# Altium footprint library prj_l476.PcbLib: 35 footprints (part 2 of 3)
Each footprint in its own frame and in the unit in brackets; x right, y up, seen from the top. Pads: shape width x height; smd on the part's side, far side on the other; paste and mask are expansions set on the pad; w line width, h text height; cw(c..) or ccw(c..) is an arc to the next point about the centre after c.
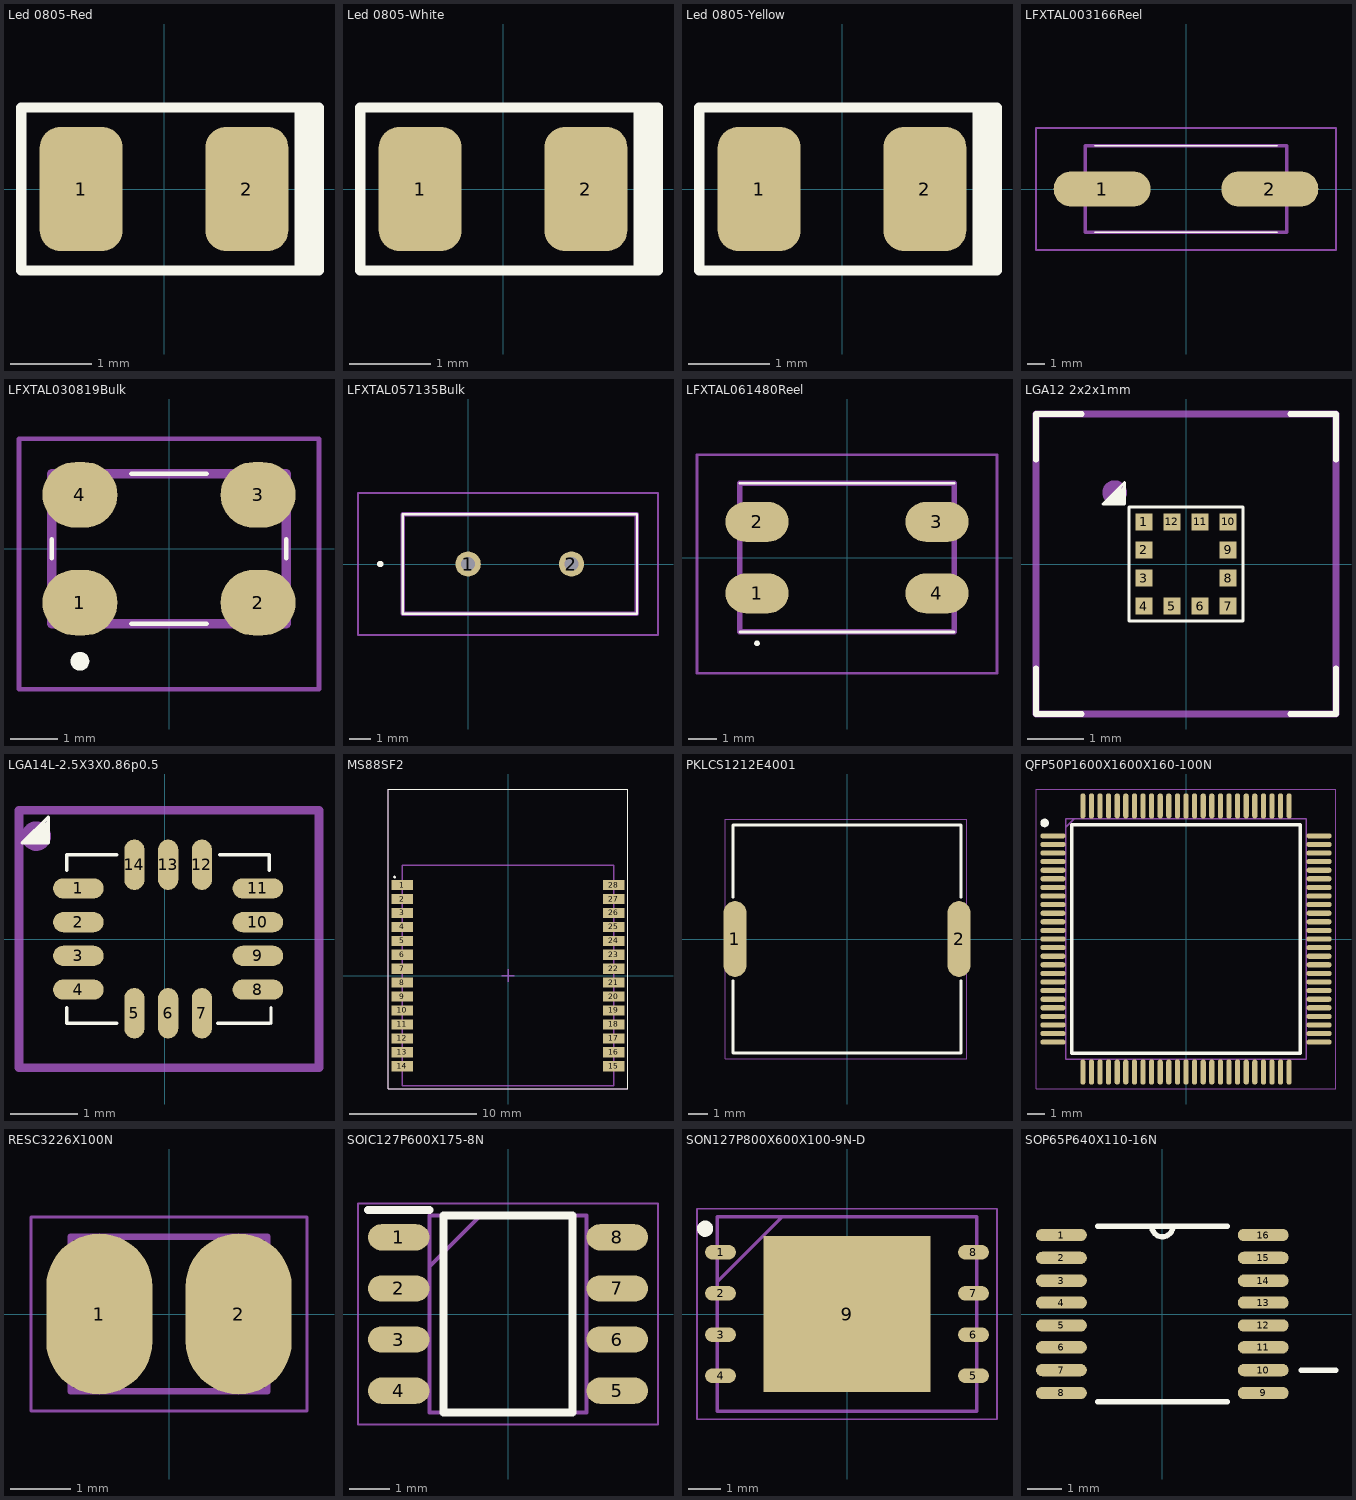
[diagram p1: the footprints below, top view; thin cyan lines are the x and y axes]

## Led 0805-Red [mil]
pads (2):
  rrect50% 40x60 smd: 1(-40,0) 2(40,0)
Top Overlay:
  rectangle: 62.99,-39.37 74.8,39.37
  lines w4.92: -68.9,-39.37 -68.9,39.37 74.8,39.37 74.8,-39.37 -68.9,-39.37
3D body "Led 0805-Red.STEP": height 43.31, standoff 0, extent -39.77,-24.61 39.76,24.6

## Led 0805-White [mil]
pads (2):
  rrect50% 40x60 smd: 1(-40,0) 2(40,0)
Top Overlay:
  rectangle: 62.99,-39.37 74.8,39.37
  lines w4.92: -68.9,-39.37 74.8,-39.37 74.8,39.37 -68.9,39.37 -68.9,-39.37
3D body "Led 0805-White.STEP": height 43.31, standoff 0, extent -39.77,-24.61 39.76,24.6

## Led 0805-Yellow [mil]
pads (2):
  rrect50% 40x60 smd: 1(-40,0) 2(40,0)
Top Overlay:
  rectangle: 62.99,-39.37 74.8,39.37
  lines w4.92: -68.9,-39.37 -68.9,39.37 74.8,39.37 74.8,-39.37 -68.9,-39.37
3D body "Led 0805-Yellow.STEP": height 43.31, standoff 0, extent -39.77,-24.61 39.76,24.6

## LFXTAL003166Reel [mm]
pads (2):
  oval 5.5x2 smd: 1(-4.75,0) 2(4.75,0)
Top Overlay:
  lines w0.1: -5.15,-2.45 5.15,-2.45 ; -5.15,2.45 5.15,2.45
Mechanical 13:
  lines w0.2: -5.7,-2.45 5.7,-2.45 5.7,2.45 -5.7,2.45 -5.7,-2.45
Mechanical 15:
  lines w0.1: -8.5,-3.45 8.5,-3.45 ; -8.5,-3.45 -8.5,3.45 ; -8.5,-3.45 8.5,-3.45 ; -8.5,-3.45 -8.5,3.45 ; -8.5,3.45 8.5,3.45 ; -8.5,3.45 8.5,3.45 ; 8.5,-3.45 8.5,3.45 ; 8.5,-3.45 8.5,3.45
3D body "LFXTAL003166Reel.stp": height 4.4, standoff 0, extent -7.3,-2.45 7.3,2.45

## LFXTAL030819Bulk [mm]
pads (4):
  oval 1.6x1.4 smd: 1(-1.9,-1.15) 2(1.9,-1.15) 3(1.9,1.15) 4(-1.9,1.15)
Top Overlay:
  lines w0.1: -2.5,-0.2 -2.5,0.2 ; -0.8,-1.6 0.8,-1.6 ; -0.8,1.6 0.8,1.6 ; 2.5,-0.2 2.5,0.2
  lines w0.2: -2,-2.4 cw(c-1.9,-2.4) -1.8,-2.4 cw(c-1.9,-2.4) -2,-2.4
Mechanical 13:
  lines w0.2: -2.5,-1.6 2.5,-1.6 2.5,1.6 -2.5,1.6 -2.5,-1.6
Mechanical 15:
  lines w0.1: -3.2,-3 3.2,-3 3.2,2.35 -3.2,2.35 -3.2,-3
3D body "LFXTAL059158Reel.stp": height 1.1, standoff 0, extent -2.56,-1.71 2.56,1.71

## LFXTAL057135Bulk [mm]
pads (2):
  round 1.192 hole 0.65: 1(0,0) 2(4.88,0)
Top Overlay:
  lines w0.1: -3.085,-2.35 -3.085,2.35 7.965,2.35 7.965,-2.35 -3.085,-2.35
  lines w0.2: -4.2,0 ccw(c-4.15,0) -4.1,0 ; -4.2,0 cw(c-4.15,0) -4.1,0 ; -4.2,0 ccw(c-4.15,0) -4.1,0
Mechanical 13:
  lines w0.2: -3.085,-2.35 -3.085,2.35 7.965,2.35 7.965,-2.35 -3.085,-2.35
Mechanical 15:
  lines w0.1: -5.2,-3.35 -5.2,3.35 8.965,3.35 8.965,-3.35 -5.2,-3.35
3D body "LFXTAL057135Bulk.stp": height 4.1, standoff -5, extent -3.085,-2.35 7.965,2.35

## LFXTAL061480Reel [mm]
pads (4):
  oval 2.2x1.4 smd: 1(-3.15,-1.25) 2(-3.15,1.25) 3(3.15,1.25) 4(3.15,-1.25)
Top Overlay:
  lines w0.1: -3.75,-2.6 3.75,-2.6 ; -3.75,2.6 3.75,2.6 ; -3.2,-3 ccw(c-3.15,-3) -3.1,-3 ccw(c-3.15,-3) -3.2,-3
Mechanical 13:
  lines w0.2: -3.75,-2.6 -3.75,2.6 3.75,2.6 3.75,-2.6 -3.75,-2.6
Mechanical 15:
  lines w0.1: -5.25,-4.05 -5.25,3.6 5.25,3.6 5.25,-4.05 -5.25,-4.05
3D body "LFXTAL026384Reel.stp": height 1.5, standoff 0, extent -4.11,-2.6 4.11,2.6

## LGA12 2x2x1mm [mm] "LGA12 2x2x1mm"
pads (12):
  rect 0.3x0.3 smd mask+0.05: 1(-0.75,0.75) 2(-0.75,0.25) 3(-0.75,-0.25) 4(-0.75,-0.75) 5(-0.25,-0.75) 6(0.25,-0.75) 7(0.75,-0.75) 8(0.75,-0.25) 9(0.75,0.25) 10(0.75,0.75) 11(0.25,0.75) 12(-0.25,0.75)
Top Overlay:
  lines w0.05: -1.118,1.168 -1.219,1.168 -1.143,1.143 -1.118,1.219 -1.321,1.118 -1.143,1.118 -1.118,1.067 -1.118,1.295 -1.295,1.092 -1.372,1.118 -1.092,1.372 -1.346,1.092 -1.422,1.092 -1.092,1.448 ; -1.092,1.448 -1.473,1.067 -1.092,1.067 -1.092,1.448 ; -1.016,-1.016 -1.016,1.016 1.016,1.016 1.016,-1.016 -1.016,-1.016
  lines w0.1: -2.667,-1.854 -2.667,-2.667 -1.854,-2.667 ; -2.667,1.854 -2.667,2.667 -1.854,2.667 ; 1.854,-2.667 2.667,-2.667 2.667,-1.854 ; 1.854,2.667 2.667,2.667 2.667,1.854
Mechanical 15:
  circle w0.254: c-1.27,1.27 r0.091
  lines w0.127: -2.667,-2.667 -2.667,2.667 2.667,2.667 2.667,-2.667 -2.667,-2.667
  text ".Designator" at -2.54,-0.381 h0.89
3D body: height 1.1, standoff 1, extent -0.725,0.253 -0.227,0.753
3D body: height 1, standoff 0, extent -1.016,-1.016 1.016,1.016

## LGA14L-2.5X3X0.86p0.5 [mm] "LGA14 2.5x3x0.86mm pitch0.5mm"
pads (14):
  oval 0.75x0.3 smd mask+0.05: 1(-1.279,0.75) 2(-1.279,0.25) 3(-1.279,-0.25) 4(-1.279,-0.75) 8(1.381,-0.75) 9(1.381,-0.25) 10(1.381,0.25) 11(1.381,0.75)
  oval 0.3x0.75 smd mask+0.05: 5(-0.449,-1.1) 6(0.051,-1.1) 7(0.551,-1.1) 12(0.551,1.1) 13(0.051,1.1) 14(-0.449,1.1)
Top Overlay:
  lines w0.05: -1.88,1.448 -1.93,1.448 ; -1.829,1.473 -1.778,1.499 -1.854,1.524 -1.753,1.524 ; -1.778,1.473 -1.753,1.422 -1.753,1.651 -1.93,1.448 ; -1.449,-1.016 -1.449,-1.25 -0.711,-1.25 ; -1.449,1.016 -1.449,1.25 -0.711,1.25 ; 0.787,-1.25 1.551,-1.25 ; 0.813,1.25 1.551,1.25 1.551,1.016 ; 1.575,-1.25 1.575,-1.016 ; -1.93,1.448 -2.007,1.473 -1.727,1.727 -1.981,1.448 -2.057,1.448 -1.727,1.803 ; -1.727,1.803 -1.727,1.422 -2.108,1.422 -1.727,1.803
  lines w0.1: -1.88,1.448 -1.829,1.448 -1.753,1.524 -1.753,1.651 -1.753,1.626 -1.854,1.524
Mechanical 15:
  circle w0.254: c-1.905,1.524 r0.091
  lines w0.127: -2.159,-1.905 2.286,-1.905 2.286,1.905 -2.159,1.905 -2.159,-1.905
  text ".Designator" at -1.905,0 h0.89
3D body: height 0.9, standoff 0.8, extent -1.214,0.517 -0.716,1.016
3D body: height 0.86, standoff 0, extent -1.473,-1.27 1.575,1.27

## MS88SF2 [mm] "Chip Array, Flat, 28-Leads, Pitch 1,10mm,  Body 17,40x17,40mm,  IPC Medium Density"
height 0.6
pads (28):
  rect 1.7x0.8 smd: 1(-8.35,7.15) 2(-8.35,6.05) 3(-8.35,4.95) 4(-8.35,3.85) 5(-8.35,2.75) 6(-8.35,1.65) 7(-8.35,0.55) 8(-8.35,-0.55) 9(-8.35,-1.65) 10(-8.35,-2.75) 11(-8.35,-3.85) 12(-8.35,-4.95) 13(-8.35,-6.05) 14(-8.35,-7.15) 15(8.35,-7.15) 16(8.35,-6.05) 17(8.35,-4.95) 18(8.35,-3.85) 19(8.35,-2.75) 20(8.35,-1.65) 21(8.35,-0.55) 22(8.35,0.55) 23(8.35,1.65) 24(8.35,2.75) 25(8.35,3.85) 26(8.35,4.95) 27(8.35,6.05) 28(8.35,7.15)
Top Overlay:
  circle w0.1: c-8.962,7.788 r0.05
  lines w0.05: -9.47,-8.95 9.47,-8.95 9.47,14.74 -9.47,14.74 -9.47,-8.95
Mechanical 13:
  lines w0.1: -8.35,-8.7 8.35,-8.7 8.35,8.7 -8.35,8.7 -8.35,-8.7
Mechanical 15:
  lines w0.05: -9.47,-8.95 9.47,-8.95 9.47,14.74 -9.47,14.74 -9.47,-8.95
  lines w0.1: -0.5,0 0.5,0 ; 0,-0.5 0,0.5
3D body "CAF-110P1739X1739-28N.step": height 0.6, standoff 0, extent -8.75,-8.7 8.75,8.7

## PKLCS1212E4001 [mm]
pads (2):
  oval 1.2x4 smd: 1(-5.9,0) 2(5.9,0)
Top Overlay:
  lines w0.15: -6,-2.2 -6,-6 6,-6 6,-2.2 ; -6,2.2 -6,6 6,6 6,2.2
Mechanical 15:
  lines w0.015: -6.4,-6.3 -6.4,6.3 6.3,6.3 6.3,-6.3 -6.4,-6.3

## QFP50P1600X1600X160-100N [mm]
pads (100):
  oval 1.475x0.3 smd: 1(-7.738,6) 2(-7.738,5.5) 3(-7.738,5) 4(-7.738,4.5) 5(-7.738,4) 6(-7.738,3.5) 7(-7.738,3) 8(-7.738,2.5) 9(-7.738,2) 10(-7.738,1.5) 11(-7.738,1) 12(-7.738,0.5) 13(-7.738,0) 14(-7.738,-0.5) 15(-7.738,-1) 16(-7.738,-1.5) 17(-7.738,-2) 18(-7.738,-2.5) 19(-7.738,-3) 20(-7.738,-3.5) 21(-7.738,-4) 22(-7.738,-4.5) 23(-7.738,-5) 24(-7.738,-5.5) 25(-7.738,-6) 51(7.738,-6) 52(7.738,-5.5) 53(7.738,-5) 54(7.738,-4.5) 55(7.738,-4) 56(7.738,-3.5) 57(7.738,-3) 58(7.738,-2.5) 59(7.738,-2) 60(7.738,-1.5) 61(7.738,-1) 62(7.738,-0.5) 63(7.738,0) 64(7.738,0.5) 65(7.738,1) 66(7.738,1.5) 67(7.738,2) 68(7.738,2.5) 69(7.738,3) 70(7.738,3.5) 71(7.738,4) 72(7.738,4.5) 73(7.738,5) 74(7.738,5.5) 75(7.738,6)
  oval 0.3x1.475 smd: 26(-6,-7.738) 27(-5.5,-7.738) 28(-5,-7.738) 29(-4.5,-7.738) 30(-4,-7.738) 31(-3.5,-7.738) 32(-3,-7.738) 33(-2.5,-7.738) 34(-2,-7.738) 35(-1.5,-7.738) 36(-1,-7.738) 37(-0.5,-7.738) 38(0,-7.738) 39(0.5,-7.738) 40(1,-7.738) 41(1.5,-7.738) 42(2,-7.738) 43(2.5,-7.738) 44(3,-7.738) 45(3.5,-7.738) 46(4,-7.738) 47(4.5,-7.738) 48(5,-7.738) 49(5.5,-7.738) 50(6,-7.738) 76(6,7.738) 77(5.5,7.738) 78(5,7.738) 79(4.5,7.738) 80(4,7.738) 81(3.5,7.738) 82(3,7.738) 83(2.5,7.738) 84(2,7.738) 85(1.5,7.738) 86(1,7.738) 87(0.5,7.738) 88(0,7.738) 89(-0.5,7.738) 90(-1,7.738) 91(-1.5,7.738) 92(-2,7.738) 93(-2.5,7.738) 94(-3,7.738) 95(-3.5,7.738) 96(-4,7.738) 97(-4.5,7.738) 98(-5,7.738) 99(-5.5,7.738) 100(-6,7.738)
Top Overlay:
  circle w0.25: c-8.225,6.75 r0.125
  lines w0.2: -6.65,-6.65 6.65,-6.65 6.65,6.65 -6.65,6.65 -6.65,-6.65
Mechanical 13:
  lines w0.1: -7,6.5 -6.5,7 ; -7,-7 7,-7 7,7 -7,7 -7,-7
Mechanical 15:
  lines w0.05: -8.725,-8.725 8.725,-8.725 8.725,8.725 -8.725,8.725 -8.725,-8.725
3D body "STM32L476VGT6.stp": height 1.6, standoff 0, extent -8,-8 8,8

## RESC3226X100N [mm]
pads (2):
  oval 1.75x2.65 smd: 1(-1.15,0) 2(1.15,0)
Mechanical 13:
  lines w0.1: -1.625,-1.275 1.625,-1.275 1.625,1.275 -1.625,1.275 -1.625,-1.275
Mechanical 15:
  lines w0.05: -2.275,-1.6 2.275,-1.6 2.275,1.6 -2.275,1.6 -2.275,-1.6
3D body "NX3225GD-8MHZ-STD-CRA-3.stp": height 1, standoff 0, extent -1.625,-1.275 1.625,1.275

## SOIC127P600X175-8N [mm]
pads (8):
  oval 1.525x0.65 smd: 1(-2.712,1.905) 2(-2.712,0.635) 3(-2.712,-0.635) 4(-2.712,-1.905) 5(2.712,-1.905) 6(2.712,-0.635) 7(2.712,0.635) 8(2.712,1.905)
Top Overlay:
  lines w0.2: -3.475,2.58 -1.95,2.58 ; -1.6,-2.45 1.6,-2.45 1.6,2.45 -1.6,2.45 -1.6,-2.45
Mechanical 13:
  lines w0.1: -1.95,1.18 -0.68,2.45 ; -1.95,-2.45 1.95,-2.45 1.95,2.45 -1.95,2.45 -1.95,-2.45
Mechanical 15:
  lines w0.05: -3.725,-2.75 3.725,-2.75 3.725,2.75 -3.725,2.75 -3.725,-2.75
3D body "NE555DR.stp": height 1.75, standoff 0, extent -3,-2.45 3,2.45

## SON127P800X600X100-9N-D [mm]
pads (9):
  oval 0.95x0.45 smd: 1(-3.9,1.905) 2(-3.9,0.635) 3(-3.9,-0.635) 4(-3.9,-1.905) 5(3.9,-1.905) 6(3.9,-0.635) 7(3.9,0.635) 8(3.9,1.905)
  rect 5.16x4.8 smd: 9(0,0)
Top Overlay:
  circle w0.25: c-4.375,2.63 r0.125
Mechanical 13:
  lines w0.1: -4,1 -2,3 ; -4,-3 4,-3 4,3 -4,3 -4,-3
Mechanical 15:
  lines w0.05: -4.625,-3.25 4.625,-3.25 4.625,3.25 -4.625,3.25 -4.625,-3.25
3D body "N25Q128A13EF840E.stp": height 1, standoff 0, extent -4.05,-3 4.05,3

## SOP65P640X110-16N [mil]
pads (16):
  oval 58x14 smd: 1(-115,90) 2(-115,64) 3(-115,38) 4(-115,13) 5(-115,-13) 6(-115,-38) 7(-115,-64) 8(-115,-90) 9(115,-90) 10(115,-64) 11(115,-38) 12(115,-13) 13(115,13) 14(115,38) 15(115,64) 16(115,90)
Top Overlay:
  lines w6: -74,-100 74,-100 ; -74,100 -12,100 ; 74,100 12,100 ; 158,-64 198,-64 ; -12,100 ccw(c0,100) 12,100 ; -12,100 12,100